# Altium footprint library Single-In-Line Package - 5+ Leads.PcbLib: 23 footprints (part 1 of 2)
Each footprint in its own frame and in the unit in brackets; x right, y up, seen from the top. Pads: shape width x height; smd on the part's side, far side on the other; paste and mask are expansions set on the pad; w line width, h text height; cw(c..) or ccw(c..) is an arc to the next point about the centre after c.
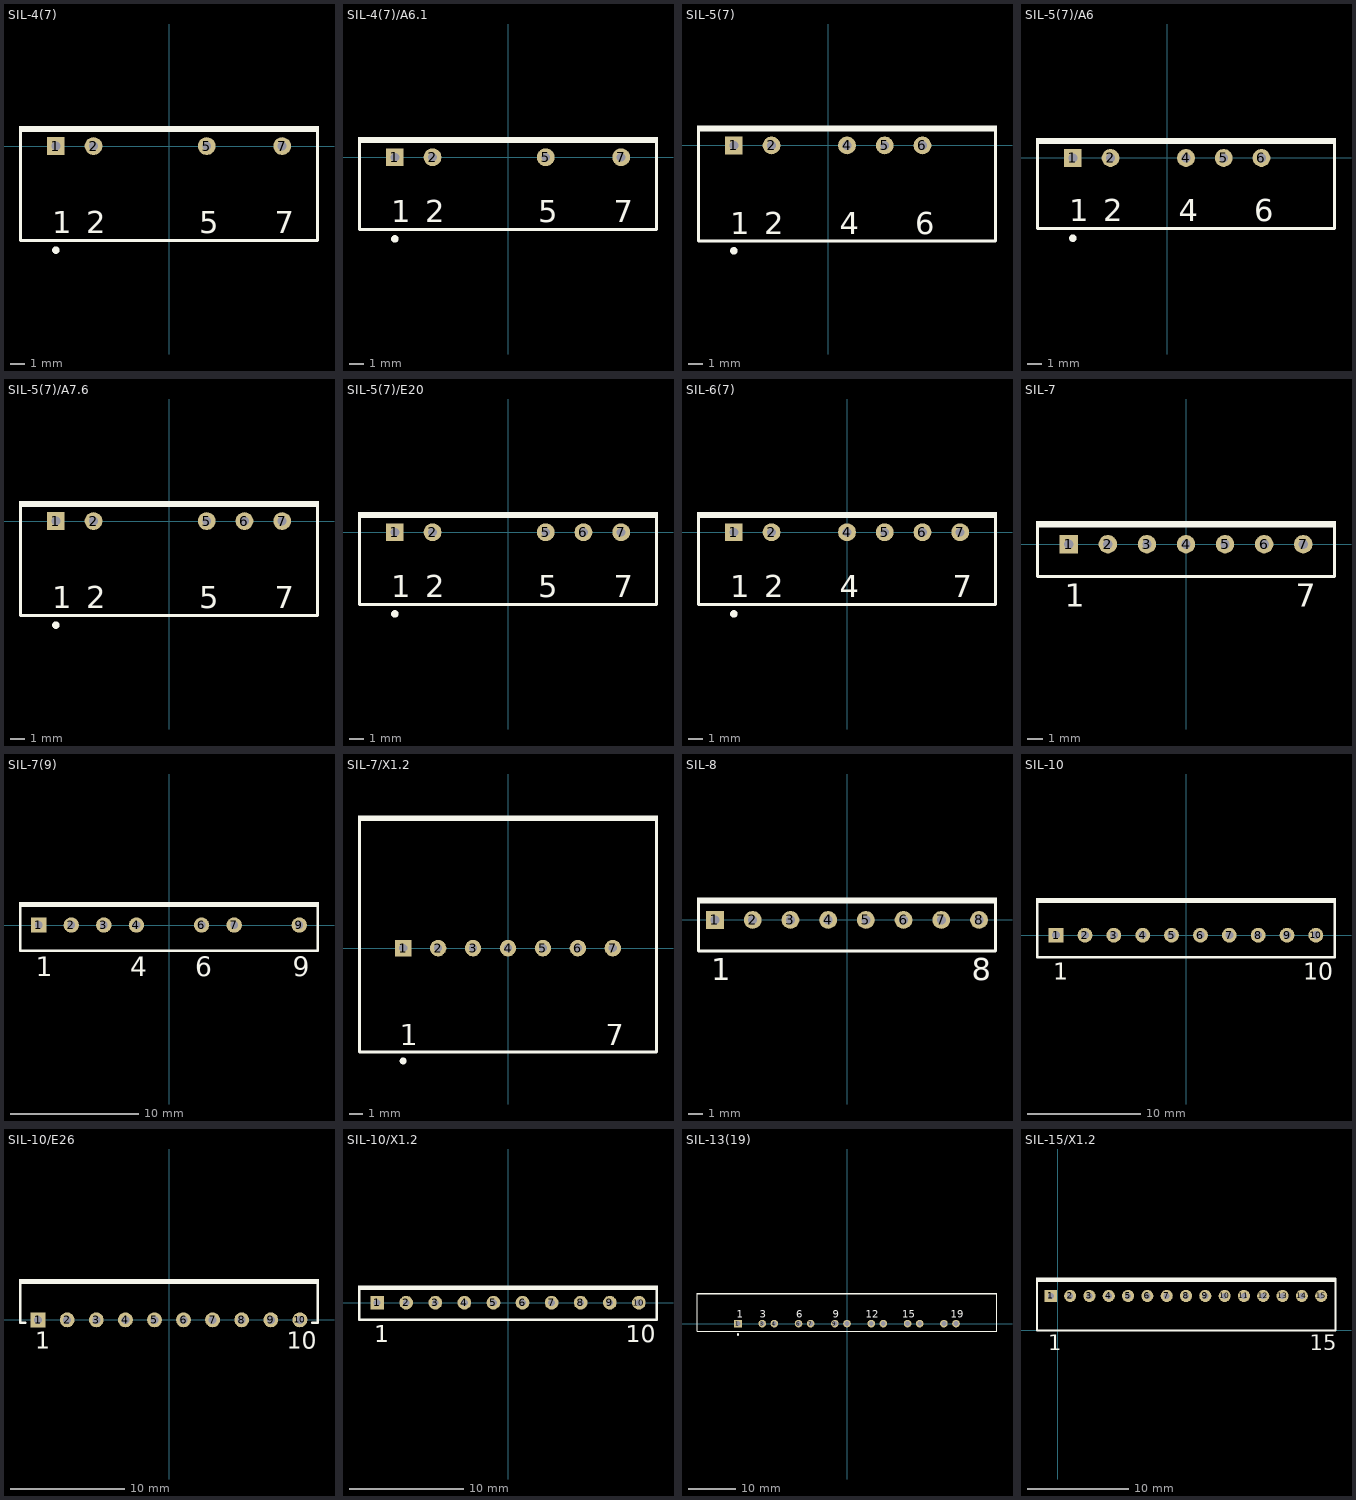
[diagram p0: the footprints below, top view; thin cyan lines are the x and y axes]

## SIL-4(7) [mm] "SIP; 7 Leads (3 Absent); Body 19.5 x 7.5 mm (LxW typ); Pitch 2.54 mm"
height 10
pads (4):
  rect 1.2x1.2 hole 0.6: 1(-7.62,0)
  round 1.2 hole 0.6: 2(-5.08,0) 5(2.54,0) 7(7.62,0)
Top Overlay:
  circle w0.25: c-7.62,-7 r0.125
  rectangle: -10.1,0.95 10.1,1.35
  lines w0.2: -10,1.25 -10,-6.35 10,-6.35 10,1.25
  text "7" at 7.12,-5.875 h1.5
  text "1" at -7.87,-5.875 h1.5
  text "5" at 2.04,-5.875 h1.5
  text "2" at -5.58,-5.875 h1.5

## SIL-4(7)/A6.1 [mm] "SIP; 7 Leads (3 Absent); Body 19.5 x 6 mm (LxW typ); Pitch 2.54 mm"
height 10
pads (4):
  rect 1.2x1.2 hole 0.6: 1(-7.62,0)
  round 1.2 hole 0.6: 2(-5.08,0) 5(2.54,0) 7(7.62,0)
Top Overlay:
  circle w0.25: c-7.62,-5.5 r0.125
  rectangle: -10.1,0.95 10.1,1.35
  lines w0.2: -10,1.25 -10,-4.85 10,-4.85 10,1.25
  text "5" at 2.04,-4.375 h1.5
  text "2" at -5.58,-4.375 h1.5
  text "7" at 7.12,-4.375 h1.5
  text "1" at -7.87,-4.375 h1.5

## SIL-5(7) [mm] "SIP; 7 Leads (2 Absent); Body 19.5 x 7.6 mm (LxW typ); Pitch 2.54 mm"
height 10
pads (5):
  rect 1.2x1.2 hole 0.6: 1(-6.35,0)
  round 1.2 hole 0.6: 2(-3.81,0) 4(1.27,0) 5(3.81,0) 6(6.35,0)
Top Overlay:
  circle w0.25: c-6.35,-7.1 r0.125
  rectangle: -8.83,0.95 11.37,1.35
  lines w0.2: -8.73,1.25 -8.73,-6.45 11.27,-6.45 11.27,1.25
  text "4" at 0.77,-5.975 h1.5
  text "2" at -4.31,-5.975 h1.5
  text "6" at 5.85,-5.975 h1.5
  text "1" at -6.6,-5.975 h1.5

## SIL-5(7)/A6 [mm] "SIP; 7 Leads (2 Absent); Body 19.5 x 6 mm (LxW typ); Pitch 2.54 mm"
height 10
pads (5):
  rect 1.2x1.2 hole 0.6: 1(-6.35,0)
  round 1.2 hole 0.6: 2(-3.81,0) 4(1.27,0) 5(3.81,0) 6(6.35,0)
Top Overlay:
  circle w0.25: c-6.35,-5.4 r0.125
  rectangle: -8.83,0.95 11.37,1.35
  lines w0.2: -8.73,1.25 -8.73,-4.75 11.27,-4.75 11.27,1.25
  text "1" at -6.6,-4.275 h1.5
  text "6" at 5.85,-4.275 h1.5
  text "2" at -4.31,-4.275 h1.5
  text "4" at 0.77,-4.275 h1.5

## SIL-5(7)/A7.6 [mm] "SIP; 7 Leads (2 Absent); Body 19.5 x 7.5 mm (LxW typ); Pitch 2.54 mm"
height 10
pads (5):
  rect 1.2x1.2 hole 0.6: 1(-7.62,0)
  round 1.2 hole 0.6: 2(-5.08,0) 5(2.54,0) 6(5.08,0) 7(7.62,0)
Top Overlay:
  circle w0.25: c-7.62,-7 r0.125
  rectangle: -10.1,0.95 10.1,1.35
  lines w0.2: -10,1.25 -10,-6.35 10,-6.35 10,1.25
  text "2" at -5.58,-5.875 h1.5
  text "5" at 2.04,-5.875 h1.5
  text "7" at 7.12,-5.875 h1.5
  text "1" at -7.87,-5.875 h1.5

## SIL-5(7)/E20 [mm] "SIP; 7 Leads (2 Absent); Body 19.5 x 6 mm (LxW typ); Pitch 2.54 mm"
height 10
pads (5):
  rect 1.2x1.2 hole 0.6: 1(-7.62,0)
  round 1.2 hole 0.6: 2(-5.08,0) 5(2.54,0) 6(5.08,0) 7(7.62,0)
Top Overlay:
  circle w0.25: c-7.62,-5.5 r0.125
  rectangle: -10.1,0.95 10.1,1.35
  lines w0.2: -10,1.25 -10,-4.85 10,-4.85 10,1.25
  text "2" at -5.58,-4.375 h1.5
  text "5" at 2.04,-4.375 h1.5
  text "1" at -7.87,-4.375 h1.5
  text "7" at 7.12,-4.375 h1.5

## SIL-6(7) [mm] "SIP; 7 Leads (1 Absent); Body 19.5 x 6 mm (LxW typ); Pitch 2.54 mm"
height 10
pads (6):
  rect 1.2x1.2 hole 0.6: 1(-7.62,0)
  round 1.2 hole 0.6: 2(-5.08,0) 4(0,0) 5(2.54,0) 6(5.08,0) 7(7.62,0)
Top Overlay:
  circle w0.25: c-7.62,-5.5 r0.125
  rectangle: -10.1,0.95 10.1,1.35
  lines w0.2: -10,1.25 -10,-4.85 10,-4.85 10,1.25
  text "1" at -7.87,-4.375 h1.5
  text "7" at 7.12,-4.375 h1.5
  text "4" at -0.5,-4.375 h1.5
  text "2" at -5.58,-4.375 h1.5

## SIL-7 [mm] "SIP; 7 Leads; Body 19.1 x 3.3 mm (LxW typ); Pitch 2.54 mm"
height 6.5
pads (7):
  rect 1.2x1.2 hole 0.6: 1(-7.62,0)
  round 1.2 hole 0.6: 2(-5.08,0) 3(-2.54,0) 4(0,0) 5(2.54,0) 6(5.08,0) 7(7.62,0)
Top Overlay:
  rectangle: -9.75,1.1 9.75,1.5
  lines w0.2: -9.65,1.4 -9.65,-2.1 9.65,-2.1 9.65,1.4
  text "7" at 7.12,-4.075 h1.5
  text "1" at -7.87,-4.075 h1.5

## SIL-7(9) [mm] "SIP; 9 Leads (2 Absent); Body 22.9 x 3.4 mm (LxW typ); Pitch 2.54 mm"
height 9.9
pads (7):
  rect 1.2x1.2 hole 0.6: 1(-10.16,0)
  round 1.2 hole 0.6: 2(-7.62,0) 3(-5.08,0) 4(-2.54,0) 6(2.54,0) 7(5.08,0) 9(10.16,0)
Top Overlay:
  rectangle: -11.7,1.4 11.7,1.8
  lines w0.2: -11.6,1.7 -11.6,-2 11.6,-2 11.6,1.7
  text "9" at 9.66,-3.975 h1.5
  text "1" at -10.41,-3.975 h1.5
  text "6" at 2.04,-3.975 h1.5
  text "4" at -3.04,-3.975 h1.5

## SIL-7/X1.2 [mm] "SIP; 7 Leads; Body 21.3 x 16.8 mm (LxW typ); Pitch 2.54 mm"
height 8.7
pads (7):
  rect 1.2x1.2 hole 0.6: 1(-7.62,0)
  round 1.2 hole 0.6: 2(-5.08,0) 3(-2.54,0) 4(0,0) 5(2.54,0) 6(5.08,0) 7(7.62,0)
Top Overlay:
  circle w0.25: c-7.62,-8.2 r0.125
  rectangle: -10.9,9.25 10.9,9.65
  lines w0.2: -10.8,9.55 -10.8,-7.55 10.8,-7.55 10.8,9.55
  text "7" at 7.12,-7.075 h1.5
  text "1" at -7.87,-7.075 h1.5

## SIL-8 [mm] "SIP; 8 Leads; Body 19.1 x 3.3 mm (LxW typ); Pitch 2.54 mm"
height 6.5
pads (8):
  rect 1.2x1.2 hole 0.6: 1(-8.89,0)
  round 1.2 hole 0.6: 2(-6.35,0) 3(-3.81,0) 4(-1.27,0) 5(1.27,0) 6(3.81,0) 7(6.35,0) 8(8.89,0)
Top Overlay:
  rectangle: -10.1,1.1 10.1,1.5
  lines w0.2: -10,1.4 -10,-2.1 10,-2.1 10,1.4
  text "8" at 8.39,-4.075 h1.5
  text "1" at -9.14,-4.075 h1.5

## SIL-10 [mm] "SIP; 10 Leads; Body 25.4 x 4.6 mm (LxW typ); Pitch 2.54 mm"
height 16.3
pads (10):
  rect 1.3x1.3 hole 0.7: 1(-11.43,0)
  round 1.3 hole 0.7: 2(-8.89,0) 3(-6.35,0) 4(-3.81,0) 5(-1.27,0) 6(1.27,0) 7(3.81,0) 8(6.35,0) 9(8.89,0) 10(11.43,0)
Top Overlay:
  rectangle: -13.2,2.85 13.2,3.25
  lines w0.2: -13.1,3.15 -13.1,-1.95 13.1,-1.95 13.1,3.15
  text "10" at 10.305,-3.925 h1.5
  text "1" at -11.68,-3.925 h1.5

## SIL-10/E26 [mm] "SIP; 10 Leads; Body 25.4 x 3.6 mm (LxW typ); Pitch 2.54 mm"
height 10.3
pads (10):
  rect 1.3x1.3 hole 0.7: 1(-11.43,0)
  round 1.3 hole 0.7: 2(-8.89,0) 3(-6.35,0) 4(-3.81,0) 5(-1.27,0) 6(1.27,0) 7(3.81,0) 8(6.35,0) 9(8.89,0) 10(11.43,0)
Top Overlay:
  rectangle: -13.1,3.15 13.1,3.55
  lines w0.2: -13,3.45 -13,-0.25 -12.56,-0.25 ; 12.52,-0.25 13,-0.25 13,3.45
  text "10" at 10.305,-2.525 h1.5
  text "1" at -11.68,-2.525 h1.5

## SIL-10/X1.2 [mm] "SIP; 10 Leads; Body 25.3 x 2.8 mm (LxW typ); Pitch 2.54 mm"
height 7.5
pads (10):
  rect 1.2x1.2 hole 0.6: 1(-11.43,0)
  round 1.2 hole 0.6: 2(-8.89,0) 3(-6.35,0) 4(-3.81,0) 5(-1.27,0) 6(1.27,0) 7(3.81,0) 8(6.35,0) 9(8.89,0) 10(11.43,0)
Top Overlay:
  rectangle: -13.1,1.1 13.1,1.5
  lines w0.2: -13,1.4 -13,-1.5 13,-1.5 13,1.4
  text "1" at -11.68,-3.475 h1.5
  text "10" at 10.305,-3.475 h1.5

## SIL-13(19) [mm] "SIP; 19 Leads (6 Absent); Body 62.4 x 7.9 mm (LxW typ); Pitch 2.54 mm"
height 26
pads (13):
  rect 1.6x1.6 hole 1: 1(-22.86,0)
  round 1.6 hole 1: 3(-17.78,0) 4(-15.24,0) 6(-10.16,0) 7(-7.62,0) 9(-2.54,0) 10(0,0) 12(5.08,0) 13(7.62,0) 15(12.7,0) 16(15.24,0) 18(20.32,0) 19(22.86,0)
Top Overlay:
  circle w0.25: c-22.86,-2.3 r0.125
  rectangle: -31.45,6.05 31.45,6.45
  lines w0.2: -31.35,6.35 -31.35,-1.65 31.35,-1.65 31.35,6.35
  text "1" at -23.11,1.175 h1.5
  text "19" at 21.735,1.175 h1.5
  text "3" at -18.28,1.175 h1.5
  text "6" at -10.66,1.175 h1.5
  text "9" at -3.04,1.175 h1.5
  text "12" at 3.955,1.175 h1.5
  text "15" at 11.575,1.175 h1.5

## SIL-15/X1.2 [mm] "SIP; 15 Leads; Body 29 x 4.6 mm (LxW typ); Pitch 1.91 mm"
height 17.1
pads (15):
  rect 1.2x1.2 hole 0.6: 1(-0.67,3.4)
  round 1.2 hole 0.6: 2(1.24,3.4) 3(3.15,3.4) 4(5.06,3.4) 5(6.97,3.4) 6(8.88,3.4) 7(10.79,3.4) 8(12.7,3.4) 9(14.61,3.4) 10(16.52,3.4) 11(18.43,3.4) 12(20.34,3.4) 13(22.25,3.4) 14(24.16,3.4) 15(26.07,3.4)
Top Overlay:
  rectangle: -2.135,4.8 27.535,5.2
  lines w0.2: -2.035,5.1 -2.035,0 27.465,0 27.465,5.1
  text "1" at -0.92,-1.975 h1.5
  text "15" at 24.945,-1.975 h1.5